# Altium footprint library MC32596.PcbLib: 1 footprints
Each footprint in its own frame and in the unit in brackets; x right, y up, seen from the top. Pads: shape width x height; smd on the part's side, far side on the other; paste and mask are expansions set on the pad; w line width, h text height; cw(c..) or ccw(c..) is an arc to the next point about the centre after c.
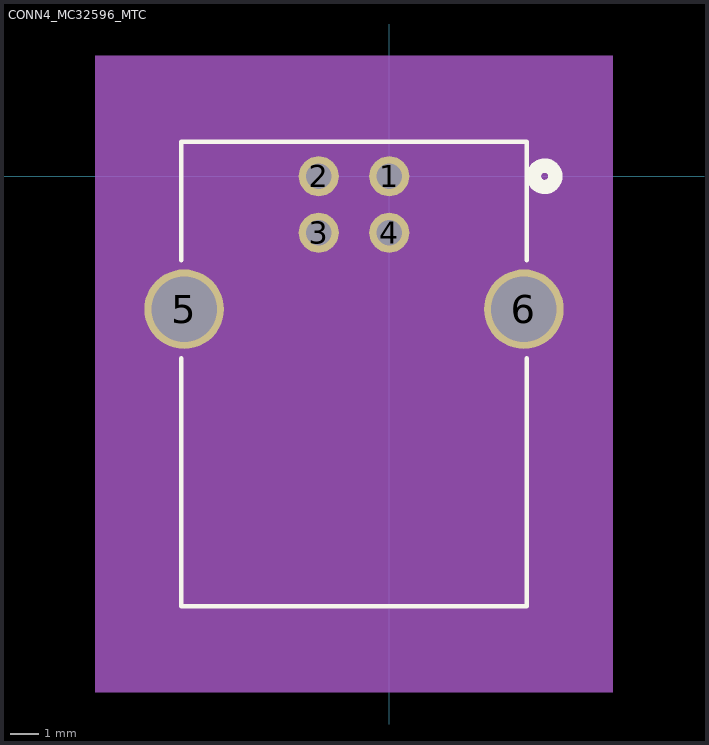
[diagram p0: the footprint, top view; thin cyan lines are the x and y axes]

## CONN4_MC32596_MTC [mil]
pads (6):
  round 56 hole 36 mask+0: 1(0,0) 2(-98.43,0) 3(-98.43,-78.74) 4(0,-78.74)
  round 111 hole 91: 5(-286.22,-185.43) 6(187.8,-185.43)
Top Overlay:
  circle w20: c216.79,0 r15
  lines w6: -290.21,-253.92 -290.21,-599.88 191.79,-599.88 191.79,-253.92 ; -290.21,-116.95 -290.21,48.12 191.79,48.12 191.79,-116.95
Bottom Overlay:
  circle w20: c216.79,0 r15
Mechanical 5:
  region: -410.21,168.12 311.79,168.12 311.79,-719.88 -410.21,-719.88
Mechanical 13:
  circle w20: c0,75 r15
  lines w1: -285.21,-594.88 186.79,-594.88 186.79,43.12 -285.21,43.12 -285.21,-594.88
Mechanical 15:
  region: 253.3,53.12 -351.72,53.12 -351.72,-604.88 253.3,-604.88
  lines w6: -351.72,-604.88 -351.72,53.12 253.3,53.12 253.3,-604.88 -351.72,-604.88
3D body: height 10, standoff 0, extent 0,0 10,10